# Altium footprint library L102021ML04Q.PcbLib: 1 footprints
Each footprint in its own frame and in the unit in brackets; x right, y up, seen from the top. Pads: shape width x height; smd on the part's side, far side on the other; paste and mask are expansions set on the pad; w line width, h text height; cw(c..) or ccw(c..) is an arc to the next point about the centre after c.
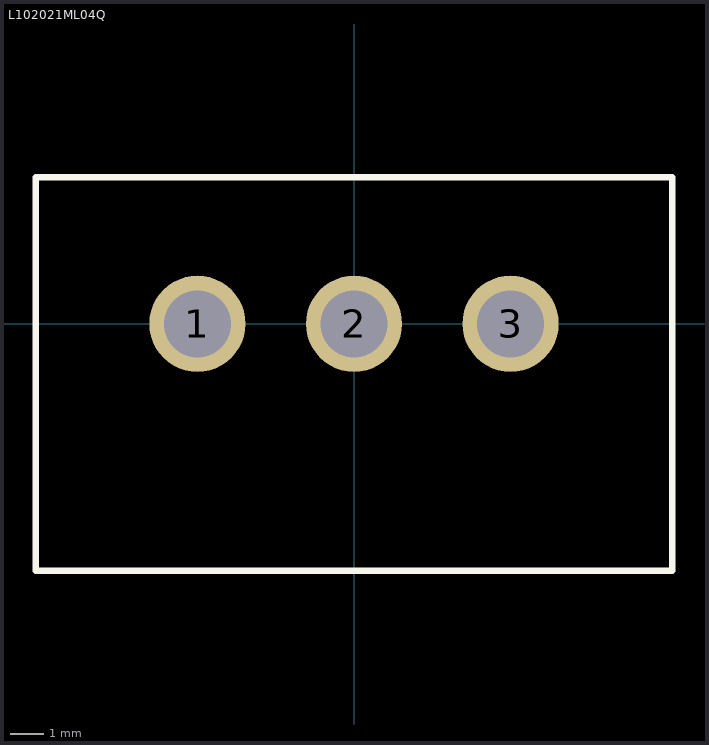
[diagram p0: the footprint, top view; thin cyan lines are the x and y axes]

## L102021ML04Q [mil]
pads (3):
  round 115 hole 80: 1(-187,0) 2(0,0) 3(187,0)
Top Overlay:
  lines w7.87: -380,-295 -380,175 380,175 380,-295 -380,-295
3D body "L102021ML04Q.stp": height 412.5, standoff -155.5, extent -380,-624.99 380,175.01